# Altium footprint library MC2520Z.PcbLib: 1 footprints
Each footprint in its own frame and in the unit in brackets; x right, y up, seen from the top. Pads: shape width x height; smd on the part's side, far side on the other; paste and mask are expansions set on the pad; w line width, h text height; cw(c..) or ccw(c..) is an arc to the next point about the centre after c.
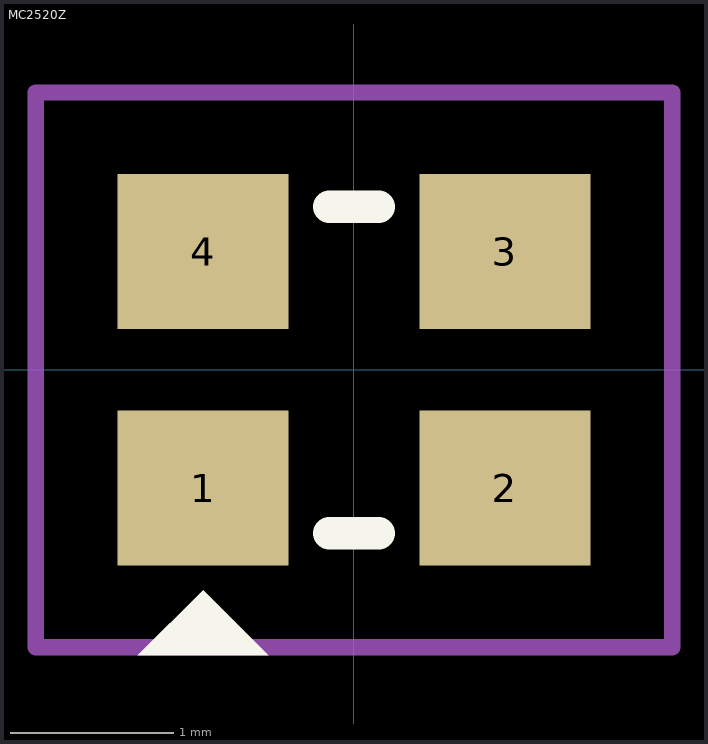
[diagram p0: the footprint, top view; thin cyan lines are the x and y axes]

## MC2520Z [mm]
pads (4):
  rect 1.05x0.95 smd: 1(-0.925,-0.725) 2(0.925,-0.725) 3(0.925,0.725) 4(-0.925,0.725)
Top Overlay:
  region: -0.525,-1.75 -1.325,-1.75 -0.925,-1.35
  lines w0.2: -0.15,-1 0.15,-1 ; -0.15,1 0.15,1
Top Courtyard:
  lines w0.1: -1.95,-1.7 1.95,-1.7 1.95,1.7 -1.95,1.7 -1.95,-1.7
3D body "MC2520Z.step": height 0.74, standoff -0.01, extent -1.25,-1 1.25,1